# Altium schematic symbol library Thermistors-0402.SchLib: 1 symbol
Pins are listed as number, name and electrical type; pins without a type are passive.

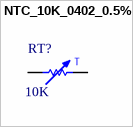
[diagram p0: symbol NTC_10K_0402_0.5%]

## NTC_10K_0402_0.5%
designator RT?, comment value 10K  (hidden comment: 10K 0.5% 0402)
NTC 10K 0.5% 0402 (1005 Metric); PartNumber: NCP15XH103D03RC; Manufacturer: Murata; Power: 0.1W; Mounting Technology: Surface Mount; PackageReference: 0402; PackageDescription: 0402 (1005 Metric); Tolerance: 0.5%
footprint R0402[1005] (Chip Resistor, Body 1.0x0.5mm)
pins: 1, 2
text: T